# Altium schematic symbol library Drivers.SchLib: 2 symbols
Pins are listed as number, name and electrical type; pins without a type are passive.

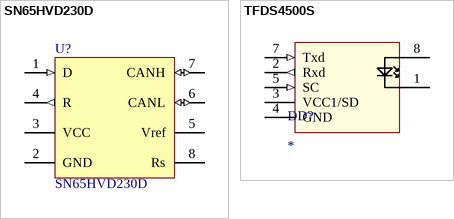
[diagram p0: symbols SN65HVD230D to TFDS4500S]

## SN65HVD230D
designator U?
SN65HVD23x 3.3-V CAN Bus Transceivers; Published: 8-Jun-2000; LatestRevisionDate: 29-May-2009; LatestRevisionNote: IPC-7351 Footprint Added.; PackageVersion: May-1999; PackageReference: DB008; Publisher: Altium Limited; PackageDescription: 8-Pin Plastic Small Outline Package 0.65 mm Pitch; Code_JEDEC: MO-150-AA; Code_IPC: SOP65P780-8
footprint SOIC127P600-8L (SOIC, 8-Leads, Body 4.9x3.9mm, Pitch 1.27mm, IPC High Density)
footprint SOIC127P600-8M (SOIC, 8-Leads, Body 4.9x3.9mm, Pitch 1.27mm, IPC Low Density)
footprint SOIC127P600-8N (SOIC, 8-Leads, Body 4.9x3.9mm, Pitch 1.27mm, IPC Medium Density)
pins: 1 D (in), 2 GND (power), 3 VCC (power), 4 R (out), 5 Vref, 6 CANL (io), 7 CANH (io), 8 Rs

## TFDS4500S
designator DD?
footprint TFDS4500S (IRDA serial tranciever)
pins: 1 Cathode (oc) "IRED cathode", 2 Rxd (out) "Receive data output", 3 VCC1/SD (power) "Supply voltage/Shutdown", 4 GND (power) "Ground", 5 SC (in) "Sensetivity control (Active high)", 7 Txd (in) "Transmit Data input", 8 Anode "IRED anode"